# Altium schematic symbol library watch.SCHLIB: 22 symbols
Pins are listed as number, name and electrical type; pins without a type are passive.

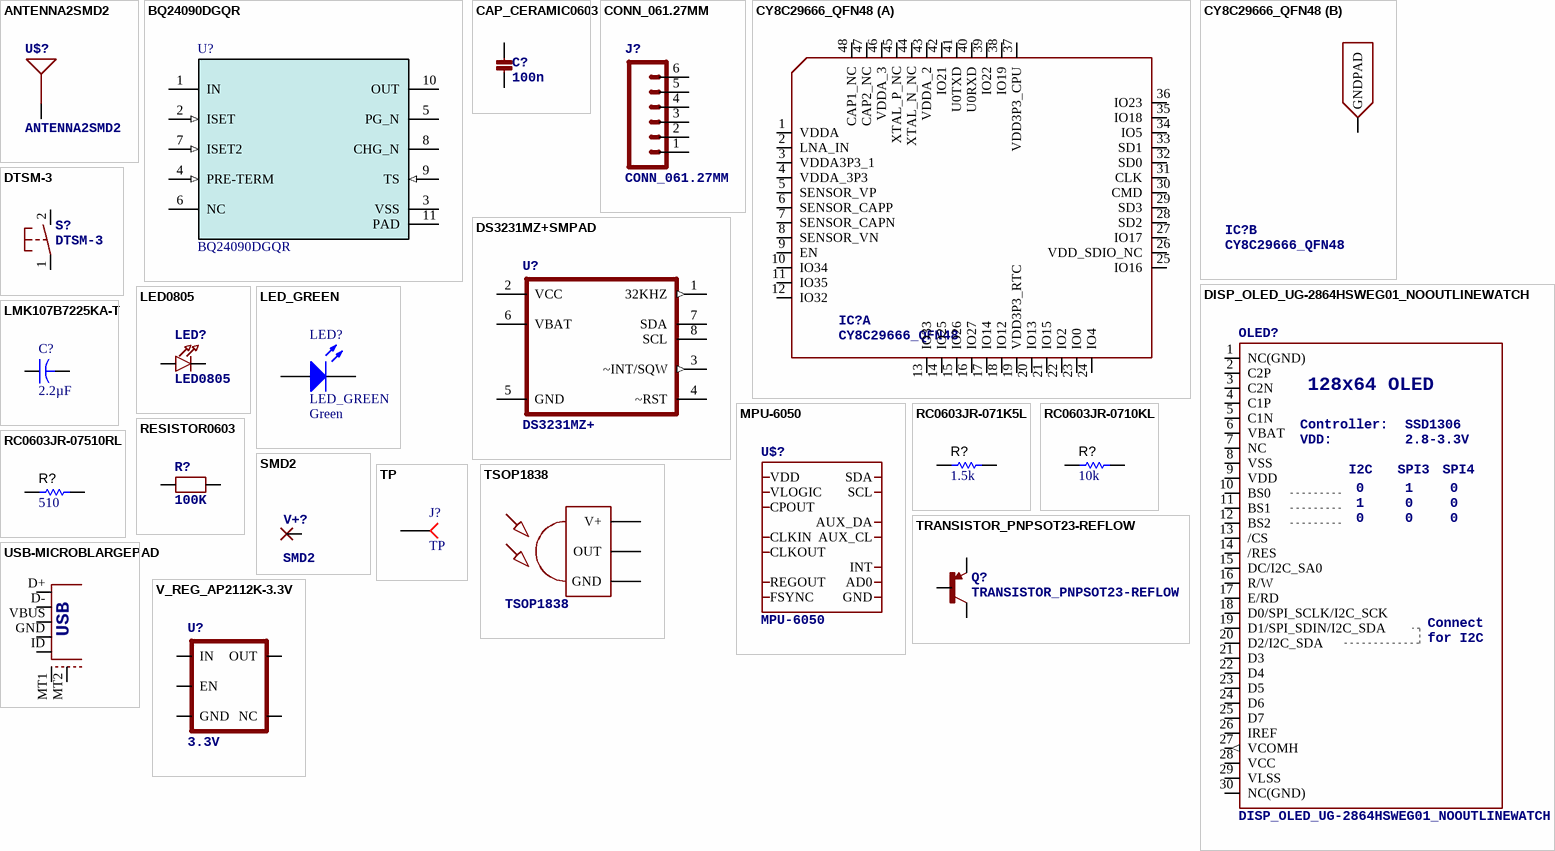
[diagram p0: symbols ANTENNA2SMD2 to V_REG_AP2112K-3.3V]

## ANTENNA2SMD2
designator U$?
Chip antenna   Single endded antenna. Common with smaller chip antennas. CHIP4 package is the GPS Chip Antenna SKU: GPS-08418. CHIP5 package is 2.4GHz chip antenna SKU: WRL-00144.
footprint ANTENNA-CHIP3
pins: FEED SIGNAL

## BQ24090DGQR
designator U?
Single Cell Li-Ion and Li-Pol Battery Charger; Manufacturer: Texas Instruments; Battery Chemistry: Lithium-Ion/Polymer; Number of Cells: 1; Current - Charging: Constant - Programmable; Programmable Features: Current; Fault Protection: Over Temperature, Over Voltage, Short Circuit; Charge Current - Max: 1A; Battery Pack Voltage: 4.2V; Voltage - Supply (Max): 6.45V; Interface: USB; Application_BuildNumber: *; Supplier 1: Digi-Key; Manufacturer Part Number: BQ24090DGQR; RoHS: RoHS Compliant; Category: Integrated Circuits (ICs); Stock 1: 0; Pricing 1: 2500=0.45 (USD); Packaging: Tape & Reel (TR); Part Status: Active; Operating Temperature: 0°C ~ 125°C (TJ); Package / Case: 10-TFSOP, 10-MSOP (0.118", 3.00mm Width) Exposed Pad; Supplier Device Package: 10-MSOP-PowerPad; ComponentLink1URL: http://www.ti.com/lit/ds/symlink/bq24092.pdf; ComponentLink1Description: http://www.ti.com/lit/ds/symlink/bq24092.pdf; Supplier Part Number 1: 296-38875-2-ND
footprint DGQ0010D_NV_N
pins: 1 IN (power), 2 ISET (in), 3 VSS (power), 4 PRE-TERM (in), 5 PG_N (hiz), 6 NC, 7 ISET2 (in), 8 CHG_N (hiz), 9 TS (in), 10 OUT (power), 11 PAD (power)

## CAP_CERAMIC0603
designator C?, comment 100n
Ceramic Capacitors0402 - 0402 Surface Mount Capacitors  16pF 50V 5% [Digikey: 445-4899-2-ND]  18pF 50V 5% [Digikey: 490-1281-2-ND]  22pF 50V 5% [Digikey: 490-1283-2-ND]  68pF 50V 5% [Digikey: 490-1289-2-ND]  0.1uF 10V 10% [Digikey: 490-1318-2-ND]  1.0uF 6.3V 10% [Digikey: 490-1320-2-ND]    0603 - 0603 Surface Mount Capacitors  16 pF 50V 5% [Digikey: 445-5051-2-ND]  22 pF 50V [Digikey: PCC220ACVTR-ND]  33 pF 50V 5% [Digikey: 490-1415-1-ND]  56pF 50V 5% [Digikey: 490-1421-1-ND]  220pF 50V 5% [Digikey: 445-1285-1-ND]  680 pF 50V   2200 pF 50V 5% C0G [Digikey: 445-1297-1-ND]  5600 pF 100V 5% X7R [Digikey: 478-3711-1-ND]  0.1 µF 25V 10% [Digikey: PCC2277TR-ND]  0.22 µF 16V 10% X7R [Digikey: 445-1318-1-ND]  1.0 µF 25V 10% [Digikey: 445-5146-2-ND]    0603 - RF Specific  3pF 250V +/-0.1pF RF [Digikey: 712-1347-1-ND]  18 pF 250V 5%  [Digikey: 478-3505-1-ND or 712-1322-1-ND]  56 pF 250V 5% C0G RF [Digikey: 490-4867-1-ND]  68 pF 250V RF [Digikey: 490-4868-1-ND]    0805 - 0805 Surface Mount Capacitors  220 pF 250V 2% RF Ceramic Capacitor [Digikey: 712-1398-1-ND]  1000 pF 50V 2% NP0 Ceramic Capacitor [Digikey: 478-3760-1-ND]  0.1 µF 25V 10% Ceramic Capacitor [Digikey: PCC1828TR-ND]  1.0 µF 16V 10% Ceramic Capacitor[Digikey: 490-1691-2-ND]  10.0 µF 10V 10% Ceramic Capacitor[Digikey: 709-1228-1-ND]  10.0 uF 16V 10% Ceramic Capacitor [Digikey: 478-5165-2-ND]  47 uF 6.3V 20% Ceramic Capacitor [Digikey: 587-1779-1-ND or 399-5506-1-ND]       1206 - 1206 Surface Mount Capacitors  47uF 10V 20% Ceramic Capacitor [Digikey: 490-5528-1-ND or 399-5508-1-ND or 445-6010-1-ND]  100uF 6.3V -20%, +80% Y5V Ceramic Capacitor (Digikey: 490-4512-1-ND, Mouser: 81-GRM31CF50J107ZE1L)
footprint 0603
pins: 1 P$1, 2 P$2

## CONN_061.27MM
designator J?
Multi connection point. Often used as Generic Header-pin footprint for 0.1 inch spaced/style header connections    On any of the 0.1 inch spaced packages, you can populate with these:  Break Away Headers - Straight (PRT-00116)   Break Away Male Headers - Right Angle (PRT-00553)   Female Headers (PRT-00115)   Break Away Headers - Machine Pin (PRT-00117)   Break Away Female Headers - Swiss Machine Pin (PRT-00743)   Arduino Stackable Header - 6 Pin (PRT-09280)        For SCREWTERMINALS and SPRING TERMINALS visit here:  Screw Terimnals on SparkFun.com (5mm/3.5mm/2.54mm spacing)       This device is also useful as a general connection point to wire up your design to another part of your project. Our various solder wires solder well into these plated through hole pads.  Hook-Up Wire - Assortment (Stranded, 22 AWG) (PRT-11375)   Hook-Up Wire - Assortment (Solid Core, 22 AWG) (PRT-11367)   View the entire wire category on our website here
footprint 1X06_1.27MM
pins: 1, 2, 3, 4, 5, 6

## CY8C29666_QFN48
designator IC?
footprint QFN48
footprint QFN48
part A pins: 1 VDDA, 2 LNA_IN, 3 VDDA3P3_1, 4 VDDA_3P3, 5 SENSOR_VP, 6 SENSOR_CAPP, 7 SENSOR_CAPN (power), 8 SENSOR_VN, 9 EN, 10 IO34, 11 IO35, 12 IO32, 13 IO33, 14 IO25, 15 IO26, 16 IO27, 17 IO14, 18 IO12 (power), 19 VDD3P3_RTC, 20 IO13, 21 IO15, 22 IO2, 23 IO0, 24 IO4, 25 IO16, 26 VDD_SDIO_NC, 27 IO17, 28 SD2, 29 SD3, 30 CMD, 31 CLK, 32 SD0, 33 SD1, 34 IO5, 35 IO18, 36 IO23, 37 VDD3P3_CPU, 38 IO19, 39 IO22, 40 U0RXD, 41 U0TXD, 42 IO21 (power), 43 VDDA_2, 44 XTAL_N_NC, 45 XTAL_P_NC, 46 VDDA_3, 47 CAP2_NC, 48 CAP1_NC
part B pins: EXP GNDPAD (power)

## DISP_OLED_UG-2864HSWEG01_NOOUTLINEWATCH
designator OLED?  128x64OLED: 128x64 OLED  forI2C: for I2C  Controller: Controller:  VDD: VDD:
I2C: I2C; SPI3: SPI3; 0: 0; 1: 1; Connect: Connect; SSD1306: SSD1306; 2.8-3.3V: 2.8-3.3V; SPI4: SPI4
footprint UG-2864HSWEG01_1.3_WRAPAROUND_WATCH
pins: 1 NC(GND), 2 C2P, 3 C2N, 4 C1P, 5 C1N, 6 VBAT, 7 NC, 8 VSS (power), 9 VDD (power), 10 BS0, 11 BS1, 12 BS2, 13 /CS, 14 /RES, 15 DC/I2C_SA0, 16 R/W, 17 E/RD, 18 D0/SPI_SCLK/I2C_SCK, 19 D1/SPI_SDIN/I2C_SDA, 20 D2/I2C_SDA, 21 D3, 22 D4, 23 D5, 24 D6, 25 D7, 26 IREF, 27 VCOMH (out), 28 VCC (power), 29 VLSS (power), 30 NC(GND)

## DS3231MZ+SMPAD
designator U?, comment DS3231MZ+
footprint SOIC8_150MIL_SMPAD
pins: 1 32KHZ (out), 2 VCC (power), 3 ~INT/SQW (out), 4 ~RST, 5 GND, 6 VBAT (power), 7 SDA, 8 SCL

## DTSM-3
designator S?
footprint DTSM-3
pins: 1, 2

## LED0805
designator LED?
LED0603 - 0603 Surface Mount Package    2mA: Green LED - Low Power (3.9mcd, 2ma, 1.7Vf) - Digikey: 475-2709-2-ND  Orange LED - Low Power (9.8mcd, 2ma, 1.8Vf) - Digikey: 475-1194-2-ND  Red LED - Low Power (5mcd, 2ma, 1.8Vf) - Digikey: 475-1195-2-ND  Yellow LED - Low Power (7mcd, 2ma, 1.8Vf) - Digikey: 475-1196-2-ND       5mA: Blue LED - Low Power (17mcd, 5ma, 2.9Vf) - Digikey: LNJ937W8CRACT-ND    0805 - 0805 Surface Mount Package    2mA: Red LED (8.8mcd, 2mA, 1.8Vf, Clear) - Low Power [Digikey: 475-2510-1-ND]  Green LED (5mcd, 2mA, 1.8Vf, Clear) - Low Power [Digikey: 475-2730-1-ND]  Yellow LED (11.3mcd, 2mA, 1.8Vf, Clear) - Low Power [Digikey: 475-2555-1-ND]       20mA: Red LED (104mcd, 20mA, Diffused) - LS R976 [Digikey: 475-1278-6-ND]  Red LED (12mcd, 20mA, 2.0Vf, Clear) - APT2012EC [Digikey: 754-1128-1-ND]  Green LED (15mcd, 20mA, 2.2Vf, Clear) - APT2012GC [Digikey: 754-1131-1-ND]  Orange LED (160mcd, 20mA, 2.1Vf, Clear) - APT2012SECK [Digikey: 754-1130-1-ND]     1206 - 1206 Surface Mount Package  Green LED (26mcd, 20mA, Diffused) - LG N971  [Digikey: 475-1407-6-ND]  Red LED (15mcd, 20mA, Diffused) - LH N974 [Digikey: 475-1416-6-ND]
footprint CHIPLED_0805
pins: 1 A, 2 C

## LED_GREEN
designator LED?  Color: Green
Typical INFRARED GaAs LED; Manufacturer: Lite-On Inc.; Manufacturer Part Number: LTST-C191KGKT; Lens Color: Colorless; Lens Transparency: Clear; Millicandela Rating: 35mcd; Lens Style/Size: Rectangle with Flat Top, 1.10mm x 0.80mm; Voltage - Forward (Vf) (Typ): 2V; Current - Test: 20mA; Viewing Angle: 130°; Wavelength - Dominant: 571nm; Wavelength - Peak: 574nm; Supplier 1: Digi-Key; RoHS: RoHS Compliant; Category: Optoelectronics; Stock 1: 780000; Pricing 1: 5000=0.0404, 10000=0.03636, 25000=0.03232, 50000=0.02929, 125000=0.02727 (USD); Packaging: Tape & Reel (TR); Part Status: Active; Mounting Type: Surface Mount; Features: -; Package / Case: 0603 (1608 Metric); Supplier Device Package: *; Size / Dimension: 1.60mm L x 0.80mm W; Height (Max): 0.55mm; ComponentLink1URL: http://optoelectronics.liteon.com/upload/download/DS22-2000-228/S_110_LTST-C191KGKT.pdf; ComponentLink1Description: http://optoelectronics.liteon.com/upload/download/DS22-2000-228/S_110_LTST-C191KGKT.pdf; Supplier Part Number 1: 160-1446-2-ND
footprint led0603 (LED 0603 package)
pins: 1 A, 2 K

## LMK107B7225KA-T
designator C?  Capacitance: 2.2µF  (hidden comment: LMK107B7225KA-T)
2.2µF 10V Ceramic Capacitor X7R 0603 (1608 Metric); Manufacturer: Taiyo Yuden; Tolerance: ±10%; Supplier 1: Digi-Key; Manufacturer Part Number: LMK107B7225KA-T; RoHS: RoHS Compliant; Category: Capacitors; Stock 1: 288000; Pricing 1: 4000=0.02473, 8000=0.023, 12000=0.02185, 28000=0.0207 (USD); Packaging: Tape & Reel (TR); Part Status: Active; Voltage - Rated: 10V; Temperature Coefficient: X7R; Operating Temperature: -55°C ~ 125°C; Features: -; Ratings: -; Applications: General Purpose; Failure Rate: *; Mounting Type: Surface Mount, MLCC; Package / Case: 0603 (1608 Metric); Size / Dimension: 0.063" L x 0.031" W (1.60mm x 0.80mm); Height - Seated (Max): -; Thickness (Max): 0.035" (0.90mm); Lead Spacing: -; Lead Style: -; ComponentLink1URL: http://media.digikey.com/pdf/Data%20Sheets/Taiyo%20Yuden%20PDFs%20URL%20links/LMK107B7225KA-T.pdf; ComponentLink1Description: http://media.digikey.com/pdf/Data%20Sheets/Taiyo%20Yuden%20PDFs%20URL%20links/LMK107B7225KA-T.pdf; Supplier Part Number 1: 587-2983-2-ND
footprint 0805 (Compoment SMD 80x50mil)
footprint 0603
pins: 1, 2
1 alternate drawing of the same symbol

## MPU-6050
designator U$?
footprint QFN.24.4X4
pins: 1 CLKIN, 6 AUX_DA, 7 AUX_CL, 8 VLOGIC, 9 AD0, 10 REGOUT, 11 FSYNC, 12 INT, 13 VDD, 18 GND, 20 CPOUT, 22 CLKOUT, 23 SCL, 24 SDA

## RC0603JR-071K5L
designator R?  Resistance (Ohms): 1.5k
RES SMD 1.5K OHM 5% 1/10W 0603; Manufacturer: Yageo; Manufacturer Part Number: RC0603JR-071K5L; Power (Watts): 0.1W, 1/10W; Temperature Coefficient: ±100ppm/°C; Supplier 1: Digi-Key; RoHS: RoHS Compliant; Category: Resistors; Stock 1: 405000; Pricing 1: 5000=0.00129, 10000=0.00112, 25000=0.00099, 50000=0.0009, 125000=0.00089 (USD); Packaging: Tape & Reel (TR); Part Status: Active; Tolerance: ±5%; Composition: Thick Film; Features: Moisture Resistant; Operating Temperature: -55°C ~ 155°C; Package / Case: 0603 (1608 Metric); Supplier Device Package: 0603; Size / Dimension: 0.063" L x 0.031" W (1.60mm x 0.80mm); Height: 0.022" (0.55mm); Number of Terminations: 2; Failure Rate: -; ComponentLink1URL: http://www.yageo.com/documents/recent/PYu-RC_Group_51_RoHS_L_04.pdf; ComponentLink1Description: http://www.yageo.com/documents/recent/PYu-RC_Group_51_RoHS_L_04.pdf; Supplier Part Number 1: 311-1.5KGRTR-ND
footprint 0603
footprint 0603M
footprint 0603L
footprint 0603_HV
pins: 1, 2

## RC0603JR-0710KL
designator R?  Resistance (Ohms): 10k
RES SMD 10K OHM 5% 1/10W 0603; Manufacturer: Yageo; Manufacturer Part Number: RC0603JR-0710KL; Power (Watts): 0.1W, 1/10W; Temperature Coefficient: ±100ppm/°C; Supplier 1: Digi-Key; RoHS: RoHS Compliant; Category: Resistors; Stock 1: 5085000; Pricing 1: 5000=0.00129, 10000=0.00112, 25000=0.00099, 50000=0.0009, 125000=0.00089 (USD); Packaging: Tape & Reel (TR); Part Status: Active; Tolerance: ±5%; Composition: Thick Film; Features: Moisture Resistant; Operating Temperature: -55°C ~ 155°C; Package / Case: 0603 (1608 Metric); Supplier Device Package: 0603; Size / Dimension: 0.063" L x 0.031" W (1.60mm x 0.80mm); Height: 0.022" (0.55mm); Number of Terminations: 2; Failure Rate: -; ComponentLink1URL: http://www.yageo.com/documents/recent/PYu-RC_Group_51_RoHS_L_04.pdf; ComponentLink1Description: http://www.yageo.com/documents/recent/PYu-RC_Group_51_RoHS_L_04.pdf; Supplier Part Number 1: 311-10KGRTR-ND
footprint 0603
footprint 0603M
footprint 0603L
footprint 0603_HV
pins: 1, 2

## RC0603JR-07510RL
designator R?  Resistance (Ohms): 510
RES SMD 510 OHM 5% 1/10W 0603; Manufacturer: Yageo; Manufacturer Part Number: RC0603JR-07510RL; Power (Watts): 0.1W, 1/10W; Temperature Coefficient: ±100ppm/°C; Supplier 1: Digi-Key; RoHS: RoHS Compliant; Category: Resistors; Stock 1: 795000; Pricing 1: 5000=0.00129, 10000=0.00112, 25000=0.00099, 50000=0.0009, 125000=0.00089 (USD); Packaging: Tape & Reel (TR); Part Status: Active; Tolerance: ±5%; Composition: Thick Film; Features: Moisture Resistant; Operating Temperature: -55°C ~ 155°C; Package / Case: 0603 (1608 Metric); Supplier Device Package: 0603; Size / Dimension: 0.063" L x 0.031" W (1.60mm x 0.80mm); Height: 0.022" (0.55mm); Number of Terminations: 2; Failure Rate: -; ComponentLink1URL: http://www.yageo.com/documents/recent/PYu-RC_Group_51_RoHS_L_04.pdf; ComponentLink1Description: http://www.yageo.com/documents/recent/PYu-RC_Group_51_RoHS_L_04.pdf; Supplier Part Number 1: 311-510GRTR-ND
footprint 0603
footprint 0603M
footprint 0603L
footprint 0603_HV
pins: 1, 2

## RESISTOR0603
designator R?, comment 100K
Resistors0402 - 0402 Surface Mount Package  22 Ohm 1% 1/16W [Digikey: 311-22.0LRTR-ND]  33 Ohm 5% 1/16W  1.0K 5% 1/16W  1.5K 5% 1/16W  2.0K 1% 1/16W  10.0K 1% 1/16W [Digikey: 311-10.0KLRTR-ND]  10.0K 5% 1/16W [Digikey: RMCF0402JT10K0TR-ND]  12.1K 1% 1/16W [Digikey: 311-22.0LRTR-ND]  100.0K 5% 1/16W    0603 - 0603 Surface Mount Package  0 Ohm 1/10 Watt 1% Resistor  15 Ohm 1/10 Watt 1% Resistor  33 Ohm 1/10 Watt 1% Resistor  49.9 Ohm 1/10 Watt 1% Resistor  100 Ohm 1/10 Watt 1% Resistor  150 Ohm 1/10 Watt 1% Resistor  240 Ohm 1/10 Watt 1% Resistor  390 Ohm 1/10 Watt 1% Resistor  560 Ohm 1/10 Watt 1% Resistor  680 Ohm 1/10 Watt 1% Resistor  750 Ohm 1/10 Watt 1% Resistor  1.0K Ohm 1/10 Watt 1% Resistor  1.5K Ohm 1/10 Watt 1% Resistor  2.0K Ohm 1/10 Watt 1% Resistor  2.2K Ohm 1/10 Watt 1% Resistor  3.3K Ohm 1/10 Watt 1% Resistor  4.7K Ohm 1/10 Watt 1% Resistor  10.0K Ohm 1/10 Watt 1% Resistor  12.0K Ohm 1/10 Watt 1% Resistor  12.1K Ohm 1/10 Watt 1% Resistor  20.0K Ohm 1/10 Watt 1% Resistor  33.0K Ohm 1/10 Watt 1% Resistor  100.0K Ohm 1/10 Watt 1% Resistor    0805 - 0805 Surface Mount Package  0 Ohm 1/8 Watt 1% Resistor  33 Ohm 1/8 Watt 1% Resistor  100 Ohm 1/8 Watt 1% Resistor  150 Ohm 1/8 Watt 1% Resistor  200 Ohm 1/8 Watt 1% Resistor  240 Ohm 1/8 Watt 1% Resistor  330 Ohm 1/8 Watt 1% Resistor  390 Ohm 1/8 Watt 1% Resistor  470 Ohm 1/8 Watt 1% Resistor  1.0K Ohm 1/8 Watt 1% Resistor  1.5K Ohm 1/8 Watt 1% Resistor  2.0K Ohm 1/8 Watt 1% Resistor  4.7K Ohm 1/8 Watt 1% Resistor  5.1K Ohm 1/8 Watt 1% Resistor  5.6K Ohm 1/8 Watt 1% Resistor  10.0K Ohm 1/8 Watt 1% Resistor  22.0K Ohm 1/8 Watt 1% Resistor  33.0K Ohm 1/8 Watt 1% Resistor  100K Ohm 1/8 Watt 1% Resistor    1206 - 1206 Surface Mount Package  2012 - 2010 Surface Mount Package  0.11 Ohm 1/2 Watt 1% Resistor - Digikey: RHM.11UCT-ND
footprint 0603
pins: 1, 2

## SMD2
designator V+?
SMD PAD
footprint SMD1,27-2,54
pins: 1 P

## TP
designator J?
Test point (true); .Sch checked: OK; .PCB  checked: OK
footprint Test Point (testpoint true)
footprint TP (testpoint true)
pins: 0

## TRANSISTOR_PNPSOT23-REFLOW
designator Q?
PNP Transistor Transistor (PNP) 800mA 60V, 1.6V VCE @ 500mA [Digikey: MMBT2907AFSTR-ND]  Transistor (PNP) Low Sat - 1.5A 20V, 260mV VCE @ 400mA [Digikey: ZXTP25020DFLTR-ND]       SOT23-R - SOT23 footprint optimised for use with solder paste and reflow ovens. SOT23-W - SOT23 footprint optimised for hand-soldering (larger pads).
footprint SOT23-R
pins: 1 B, 2 E, 3 C

## TSOP1838
designator U$?
IR Receiver and Demodulator
footprint TSOP18XX
pins: GND, OUT, VCC V+

## USB-MICROBLARGEPAD
designator USB?  (value not drawn)
USB: USB
footprint USB-MICROB_LARGEPAD
pins: D+, D-, GND, ID, MT1 SHEILD1, MT2 SHEILD2, VBUS

## V_REG_AP2112K-3.3V
designator U?, comment 3.3V
AP2112 - 600mA CMOS LDO Regulator w/ Enable    The AP2112 is CMOS process low dropout linear regulator with enable function, the regulator delivers a guaranteed 600mA (min.) continuous load current.   Features  Output Voltage Accuracy: ±1.5%   Output Current: 600mA (Min.)   Foldback Short Current Protection: 50mA   Enable Function to Turn ON/OFF VOUT  Low Dropout Voltage (3.3V): 250mV (Typ.) @IOUT=600mA   Excellent Load Regulation: 0.2%/A (Typ.)   Excellent Line Regulation: 0.02%/V (Typ.)   Low Quiescent Current: 55μA (Typ.)  Low Standby Current: 0.01μA (Typ.)  Low Output Noise: 50μVRMS   PSRR: 100Hz -65dB, 1kHz -65dB    OTSD Protection   Stable  with  1.0μF Flexible Cap: Ceramic, Tantalum and Aluminum Electrolytic   Operation Temperature Range: -40°C to 85°C   ESD: MM 400V, HBM 4000V; PROD_ID: VREG-12457; VALUE: 3.3V
footprint SOT23-5
pins: 1 IN, 2 GND, 3 EN, 4 NC, 5 OUT